# Altium schematic symbol library THVD1420DR.Schlib: 1 symbol
Pins are listed as number, name and electrical type; pins without a type are passive.

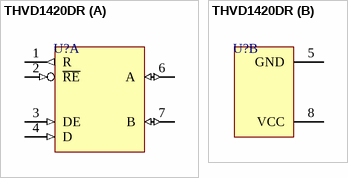
[diagram p0: symbol THVD1420DR]

## THVD1420DR
designator U?
part A pins: 1 R (out), 2 ~{RE} (in), 3 DE (in), 4 D (in), 6 A (io), 7 B (io)
part B pins: 5 GND (power), 8 VCC (power)